# EAGLE library part MYCOMPONENTS_TSL2561 (library Displayboard)
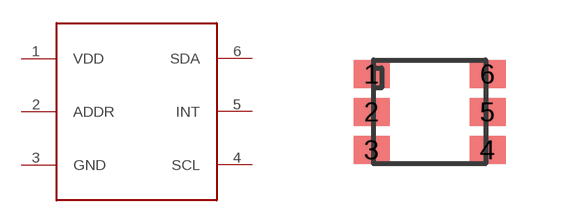
[diagram p1: symbol with the pads of MYCOMPONENTS_TMB-6; footprint MYCOMPONENTS_TMB-6]

Designator prefix U

## MYCOMPONENTS_TSL2561  [MYCOMPONENTS_TMB-6]
1  VDD
2  ADDR
3  GND
4  SCL
5  INT
6  SDA

## Footprint MYCOMPONENTS_TMB-6 (pad centres in mm)
smd 0.9 x 0.7: 1 -1.55,1; 2 -1.55,0.05; 3 -1.55,-0.9; 4 1.35,-0.9; 5 1.35,0.05; 6 1.35,1